# EAGLE library part 67996-X-08-YYY (library FCI)
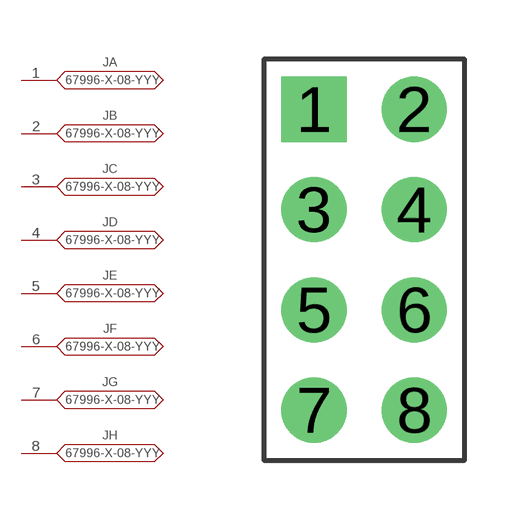
[diagram p1: symbol with the pads of 67996-X-08; footprint 67996-X-08]

Designator prefix J; gates A=67996-X-YY-ZZZ B=67996-X-YY-ZZZ C=67996-X-YY-ZZZ D=67996-X-YY-ZZZ E=67996-X-YY-ZZZ F=67996-X-YY-ZZZ G=67996-X-YY-ZZZ H=67996-X-YY-ZZZ

## 67996-X-08-YYY  [67996-X-08]
1  A:P$1  pas
2  B:P$1  pas
3  C:P$1  pas
4  D:P$1  pas
5  E:P$1  pas
6  F:P$1  pas
7  G:P$1  pas
8  H:P$1  pas

## Footprint 67996-X-08 (pad centres in mm)
drill 1.1 square: 1 -1.27,3.81
drill 1.1: 2 1.27,3.81; 3 -1.27,1.27; 4 1.27,1.27; 5 -1.27,-1.27; 6 1.27,-1.27; 7 -1.27,-3.81; 8 1.27,-3.81